# Altium footprint library MAL203851229E3.PcbLib: 1 footprints
Each footprint in its own frame and in the unit in brackets; x right, y up, seen from the top. Pads: shape width x height; smd on the part's side, far side on the other; paste and mask are expansions set on the pad; w line width, h text height; cw(c..) or ccw(c..) is an arc to the next point about the centre after c.
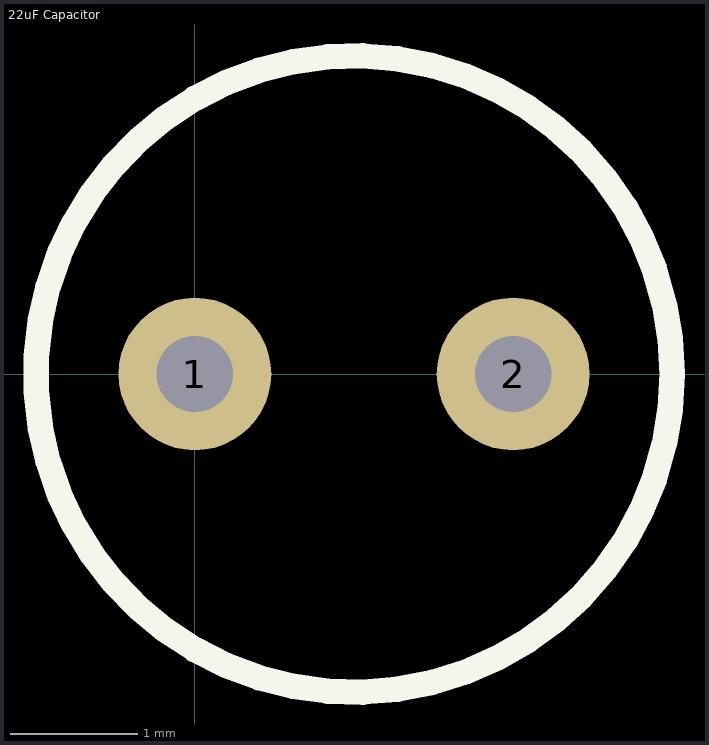
[diagram p0: the footprint, top view; thin cyan lines are the x and y axes]

## 22uF Capacitor [mm]
pads (2):
  round 1.2 hole 0.6: 1(0,0) 2(2.5,0)
Top Overlay:
  circle w0.2: c1.25,0 r2.5